# Altium integrated library Avago LED Display 7-Segment, 1-Digit.IntLib: 223 symbols (part 1 of 5)
Pins are listed as number, name and electrical type; pins without a type are passive.

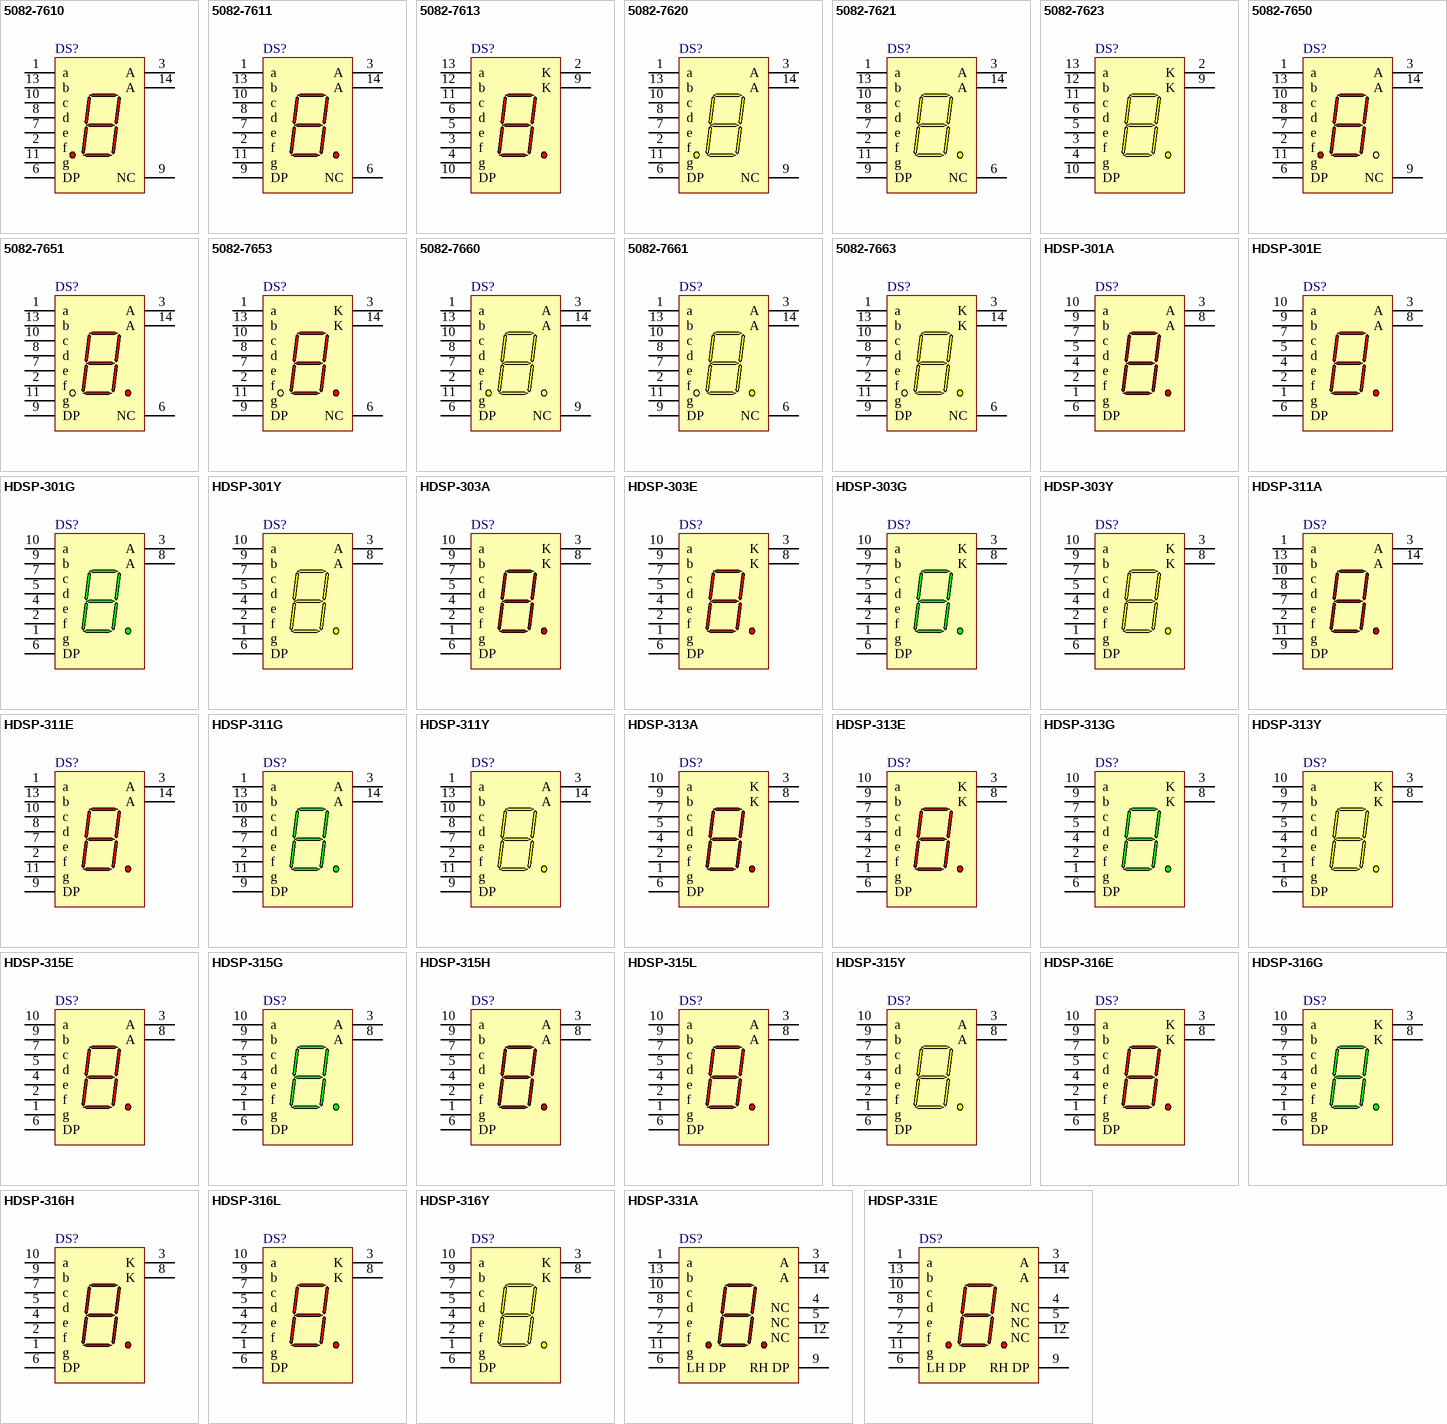
[diagram p0: symbols 5082-7610 to HDSP-331E]

## 5082-7610
designator DS?
7.62 mm HER 7-Segment Display: CA, LH DP; Note: Pins 3 and 14 are redundant Anodes.; Note: No pins are present in positions 4, 5 and 12.; Published: 26-May-2004; LatestRevisionDate: 11-Oct-2004; LatestRevisionNote: Display outline superimposed on PCB Footprint.; DatasheetVersion: 27-Aug-2001; PackageVersion: 10-Mar-2001; PackageReference: A-11(L); Publisher: Altium Limited; PackageDescription: LED, 7-Segment Display, 7.62 mm, LHD; 14 Leads (3 Absent); Row Space 7.62 mm; Pitch 2.54 mm; ComponentLink1Description: Manufacturer Link; ComponentLink1URL: http://www.avagotech.com/; ComponentLink2Description: Datasheet; ComponentLink2URL: http://cp.literature.agilent.com/litweb/pdf/5988-3325EN.pdf
footprint A-11(L) (LED, 7-Segment Display, 7.62 mm, LHD; 14 Leads (3 Absent); Row Space 7.62 mm; Pitch 2.54 mm)
simulation model 5082_7610 (SUBCKT)
pins: 1 a "Cathode", 2 f "Cathode", 3 A "Anode", 6 DP "Cathode", 7 e "Cathode", 8 d "Cathode", 9 NC "No Connect", 10 c "Cathode", 11 g "Cathode", 13 b "Cathode", 14 A "Anode"

## 5082-7611
designator DS?
7.62 mm HER 7-Segment Display: CA, RH DP; Note: Pins 3 and 14 are redundant Anodes.; Note: No pins are present in positions 4, 5 and 12.; Published: 26-May-2004; LatestRevisionDate: 11-Oct-2004; LatestRevisionNote: Display outline superimposed on PCB Footprint.; DatasheetVersion: 27-Aug-2001; PackageVersion: 10-Mar-2001; PackageReference: A-11(R); Publisher: Altium Limited; PackageDescription: LED, 7-Segment Display, 7.62 mm, RHD; 14 Leads (3 Absent); Row Space 7.62 mm; Pitch 2.54 mm; ComponentLink1Description: Manufacturer Link; ComponentLink1URL: http://www.avagotech.com/; ComponentLink2Description: Datasheet; ComponentLink2URL: http://cp.literature.agilent.com/litweb/pdf/5988-3325EN.pdf
footprint A-11(R) (LED, 7-Segment Display, 7.62 mm, RHD; 14 Leads (3 Absent); Row Space 7.62 mm; Pitch 2.54 mm)
simulation model 5082_7611 (SUBCKT)
pins: 1 a "Cathode", 2 f "Cathode", 3 A "Anode", 6 NC "No Connect", 7 e "Cathode", 8 d "Cathode", 9 DP "Cathode", 10 c "Cathode", 11 g "Cathode", 13 b "Cathode", 14 A "Anode"

## 5082-7613
designator DS?
7.62 mm HER 7-Segment Display: CC, RH DP; Note: Pins 2 and 9 are redundant Cathodes.; Note: No pins are present in positions 1, 7, 8 and 14.; Published: 26-May-2004; LatestRevisionDate: 11-Oct-2004; LatestRevisionNote: Display outline superimposed on PCB Footprint.; DatasheetVersion: 27-Aug-2001; PackageVersion: 27-Aug-2001; PackageReference: A-10(14); Publisher: Altium Limited; PackageDescription: LED, 7-Segment Display, 7.62 mm, RHD; 14 Leads (4 Absent); Row Space 7.62 mm; Pitch 2.54 mm; ComponentLink1Description: Manufacturer Link; ComponentLink1URL: http://www.avagotech.com/; ComponentLink2Description: Datasheet; ComponentLink2URL: http://cp.literature.agilent.com/litweb/pdf/5988-3325EN.pdf
footprint A-10(14) (LED, 7-Segment Display, 7.62 mm, RHD; 14 Leads (4 Absent); Row Space 7.62 mm; Pitch 2.54 mm)
simulation model 5082_7613 (SUBCKT)
pins: 2 K "Cathode", 3 f "Anode", 4 g "Anode", 5 e "Anode", 6 d "Anode", 9 K "Cathode", 10 DP "Anode", 11 c "Anode", 12 b "Anode", 13 a "Anode"

## 5082-7620
designator DS?
7.62 mm Yellow 7-Segment Display: CA, LH DP; Note: Pins 3 and 14 are redundant Anodes.; Note: No pins are present in positions 4, 5 and 12.; Published: 26-May-2004; LatestRevisionDate: 11-Oct-2004; LatestRevisionNote: Display outline superimposed on PCB Footprint.; DatasheetVersion: 27-Aug-2001; PackageVersion: 10-Mar-2001; PackageReference: A-11(L); Publisher: Altium Limited; PackageDescription: LED, 7-Segment Display, 7.62 mm, LHD; 14 Leads (3 Absent); Row Space 7.62 mm; Pitch 2.54 mm; ComponentLink1Description: Manufacturer Link; ComponentLink1URL: http://www.avagotech.com/; ComponentLink2Description: Datasheet; ComponentLink2URL: http://cp.literature.agilent.com/litweb/pdf/5988-3325EN.pdf
footprint A-11(L) (LED, 7-Segment Display, 7.62 mm, LHD; 14 Leads (3 Absent); Row Space 7.62 mm; Pitch 2.54 mm)
simulation model 5082_7620 (SUBCKT)
pins: 1 a "Cathode", 2 f "Cathode", 3 A "Anode", 6 DP "Cathode", 7 e "Cathode", 8 d "Cathode", 9 NC "No Connect", 10 c "Cathode", 11 g "Cathode", 13 b "Cathode", 14 A "Anode"

## 5082-7621
designator DS?
7.62 mm Yellow 7-Segment Display: CA, RH DP; Note: Pins 3 and 14 are redundant Anodes.; Note: No pins are present in positions 4, 5 and 12.; Published: 26-May-2004; LatestRevisionDate: 11-Oct-2004; LatestRevisionNote: Display outline superimposed on PCB Footprint.; DatasheetVersion: 27-Aug-2001; PackageVersion: 10-Mar-2001; PackageReference: A-11(R); Publisher: Altium Limited; PackageDescription: LED, 7-Segment Display, 7.62 mm, RHD; 14 Leads (3 Absent); Row Space 7.62 mm; Pitch 2.54 mm; ComponentLink1Description: Manufacturer Link; ComponentLink1URL: http://www.avagotech.com/; ComponentLink2Description: Datasheet; ComponentLink2URL: http://cp.literature.agilent.com/litweb/pdf/5988-3325EN.pdf
footprint A-11(R) (LED, 7-Segment Display, 7.62 mm, RHD; 14 Leads (3 Absent); Row Space 7.62 mm; Pitch 2.54 mm)
simulation model 5082_7621 (SUBCKT)
pins: 1 a "Cathode", 2 f "Cathode", 3 A "Anode", 6 NC "No Connect", 7 e "Cathode", 8 d "Cathode", 9 DP "Cathode", 10 c "Cathode", 11 g "Cathode", 13 b "Cathode", 14 A "Anode"

## 5082-7623
designator DS?
7.62 mm Yellow 7-Segment Display: CC, RH DP; Note: Pins 2 and 9 are redundant Cathodes.; Note: No pins are present in positions 1, 7, 8 and 14.; Published: 26-May-2004; LatestRevisionDate: 11-Oct-2004; LatestRevisionNote: Display outline superimposed on PCB Footprint.; DatasheetVersion: 27-Aug-2001; PackageVersion: 27-Aug-2001; PackageReference: A-10(14); Publisher: Altium Limited; PackageDescription: LED, 7-Segment Display, 7.62 mm, RHD; 14 Leads (4 Absent); Row Space 7.62 mm; Pitch 2.54 mm; ComponentLink1Description: Manufacturer Link; ComponentLink1URL: http://www.avagotech.com/; ComponentLink2Description: Datasheet; ComponentLink2URL: http://cp.literature.agilent.com/litweb/pdf/5988-3325EN.pdf
footprint A-10(14) (LED, 7-Segment Display, 7.62 mm, RHD; 14 Leads (4 Absent); Row Space 7.62 mm; Pitch 2.54 mm)
simulation model 5082_7623 (SUBCKT)
pins: 2 K "Cathode", 3 f "Anode", 4 g "Anode", 5 e "Anode", 6 d "Anode", 9 K "Cathode", 10 DP "Anode", 11 c "Anode", 12 b "Anode", 13 a "Anode"

## 5082-7650
designator DS?
10.92 mm HER 7-Segment Display: CA, LH DP; Note: Pins 3 and 14 are redundant Anodes.; Note: No pins are present in positions 4, 5 and 12.; Published: 26-May-2004; LatestRevisionDate: 11-Oct-2004; LatestRevisionNote: Display outline superimposed on PCB Footprint.; DatasheetVersion: 27-Aug-2001; PackageVersion: 11-Mar-2003; PackageReference: E-11(L); Publisher: Altium Limited; PackageDescription: LED, 7-Segment Display, 10.92 mm, LHD; 14 Leads (3 Absent); Row Space 7.62 mm; Pitch 2.54 mm; ComponentLink1Description: Manufacturer Link; ComponentLink1URL: http://www.avagotech.com/; ComponentLink2Description: Datasheet; ComponentLink2URL: http://cp.literature.agilent.com/litweb/pdf/5988-3325EN.pdf
footprint E-11(L) (LED, 7-Segment Display, 10.92 mm, LHD; 14 Leads (3 Absent); Row Space 7.62 mm; Pitch 2.54 mm)
simulation model 5082_7610 (SUBCKT)
pins: 1 a "Cathode", 2 f "Cathode", 3 A "Anode", 6 DP "Cathode", 7 e "Cathode", 8 d "Cathode", 9 NC "No Connect", 10 c "Cathode", 11 g "Cathode", 13 b "Cathode", 14 A "Anode"

## 5082-7651
designator DS?
10.92 mm HER 7-Segment Display: CA, RH DP; Note: Pins 3 and 14 are redundant Anodes.; Note: No pins are present in positions 4, 5 and 12.; Published: 26-May-2004; LatestRevisionDate: 11-Oct-2004; LatestRevisionNote: Display outline superimposed on PCB Footprint.; DatasheetVersion: 27-Aug-2001; PackageVersion: 11-Mar-2003; PackageReference: E-11(R); Publisher: Altium Limited; PackageDescription: LED, 7-Segment Display, 10.92 mm, RHD; 14 Leads (3 Absent); Row Space 7.62 mm; Pitch 2.54 mm; ComponentLink1Description: Manufacturer Link; ComponentLink1URL: http://www.avagotech.com/; ComponentLink2Description: Datasheet; ComponentLink2URL: http://cp.literature.agilent.com/litweb/pdf/5988-3325EN.pdf
footprint E-11(R) (LED, 7-Segment Display, 10.92 mm, RHD; 14 Leads (3 Absent); Row Space 7.62 mm; Pitch 2.54 mm)
simulation model 5082_7611 (SUBCKT)
pins: 1 a "Cathode", 2 f "Cathode", 3 A "Anode", 6 NC "No Connect", 7 e "Cathode", 8 d "Cathode", 9 DP "Cathode", 10 c "Cathode", 11 g "Cathode", 13 b "Cathode", 14 A "Anode"

## 5082-7653
designator DS?
10.92 mm HER 7-Segment Display: CC, RH DP; Note: Pins 3 and 14 are redundant Cathodes.; Note: No pins are present in positions 4, 5 and 12.; Published: 26-May-2004; LatestRevisionDate: 11-Oct-2004; LatestRevisionNote: Display outline superimposed on PCB Footprint.; DatasheetVersion: 27-Aug-2001; PackageVersion: 11-Mar-2003; PackageReference: E-11(R); Publisher: Altium Limited; PackageDescription: LED, 7-Segment Display, 10.92 mm, RHD; 14 Leads (3 Absent); Row Space 7.62 mm; Pitch 2.54 mm; ComponentLink1Description: Manufacturer Link; ComponentLink1URL: http://www.avagotech.com/; ComponentLink2Description: Datasheet; ComponentLink2URL: http://cp.literature.agilent.com/litweb/pdf/5988-3325EN.pdf
footprint E-11(R) (LED, 7-Segment Display, 10.92 mm, RHD; 14 Leads (3 Absent); Row Space 7.62 mm; Pitch 2.54 mm)
simulation model 5082_7653 (SUBCKT)
pins: 1 a "Anode", 2 f "Anode", 3 K "Cathode", 6 NC "No Connect", 7 e "Anode", 8 d "Anode", 9 DP "Anode", 10 c "Anode", 11 g "Anode", 13 b "Anode", 14 K "Cathode"

## 5082-7660
designator DS?
10.92 mm Yellow 7-Segment Display: CA, LH DP; Note: Pins 3 and 14 are redundant Anodes.; Note: No pins are present in positions 4, 5 and 12.; Published: 26-May-2004; LatestRevisionDate: 11-Oct-2004; LatestRevisionNote: Display outline superimposed on PCB Footprint.; DatasheetVersion: 27-Aug-2001; PackageVersion: 11-Mar-2003; PackageReference: E-11(L); Publisher: Altium Limited; PackageDescription: LED, 7-Segment Display, 10.92 mm, LHD; 14 Leads (3 Absent); Row Space 7.62 mm; Pitch 2.54 mm; ComponentLink1Description: Manufacturer Link; ComponentLink1URL: http://www.avagotech.com/; ComponentLink2Description: Datasheet; ComponentLink2URL: http://cp.literature.agilent.com/litweb/pdf/5988-3325EN.pdf
footprint E-11(L) (LED, 7-Segment Display, 10.92 mm, LHD; 14 Leads (3 Absent); Row Space 7.62 mm; Pitch 2.54 mm)
simulation model 5082_7620 (SUBCKT)
pins: 1 a "Cathode", 2 f "Cathode", 3 A "Anode", 6 DP "Cathode", 7 e "Cathode", 8 d "Cathode", 9 NC "No Connect", 10 c "Cathode", 11 g "Cathode", 13 b "Cathode", 14 A "Anode"

## 5082-7661
designator DS?
10.92 mm Yellow 7-Segment Display: CA, RH DP; Note: Pins 3 and 14 are redundant Anodes.; Note: No pins are present in positions 4, 5 and 12.; Published: 26-May-2004; LatestRevisionDate: 11-Oct-2004; LatestRevisionNote: Display outline superimposed on PCB Footprint.; DatasheetVersion: 27-Aug-2001; PackageVersion: 11-Mar-2003; PackageReference: E-11(R); Publisher: Altium Limited; PackageDescription: LED, 7-Segment Display, 10.92 mm, RHD; 14 Leads (3 Absent); Row Space 7.62 mm; Pitch 2.54 mm; ComponentLink1Description: Manufacturer Link; ComponentLink1URL: http://www.avagotech.com/; ComponentLink2Description: Datasheet; ComponentLink2URL: http://cp.literature.agilent.com/litweb/pdf/5988-3325EN.pdf
footprint E-11(R) (LED, 7-Segment Display, 10.92 mm, RHD; 14 Leads (3 Absent); Row Space 7.62 mm; Pitch 2.54 mm)
simulation model 5082_7621 (SUBCKT)
pins: 1 a "Cathode", 2 f "Cathode", 3 A "Anode", 6 NC "No Connect", 7 e "Cathode", 8 d "Cathode", 9 DP "Cathode", 10 c "Cathode", 11 g "Cathode", 13 b "Cathode", 14 A "Anode"

## 5082-7663
designator DS?
10.92 mm Yellow 7-Segment Display: CC, RH DP; Note: Pins 3 and 14 are redundant Cathodes.; Note: No pins are present in positions 4, 5 and 12.; Published: 26-May-2004; LatestRevisionDate: 11-Oct-2004; LatestRevisionNote: Display outline superimposed on PCB Footprint.; DatasheetVersion: 27-Aug-2001; PackageVersion: 11-Mar-2003; PackageReference: E-11(R); Publisher: Altium Limited; PackageDescription: LED, 7-Segment Display, 10.92 mm, RHD; 14 Leads (3 Absent); Row Space 7.62 mm; Pitch 2.54 mm; ComponentLink1Description: Manufacturer Link; ComponentLink1URL: http://www.avagotech.com/; ComponentLink2Description: Datasheet; ComponentLink2URL: http://cp.literature.agilent.com/litweb/pdf/5988-3325EN.pdf
footprint E-11(R) (LED, 7-Segment Display, 10.92 mm, RHD; 14 Leads (3 Absent); Row Space 7.62 mm; Pitch 2.54 mm)
simulation model 5082_7663 (SUBCKT)
pins: 1 a "Anode", 2 f "Anode", 3 K "Cathode", 6 NC "No Connect", 7 e "Anode", 8 d "Anode", 9 DP "Anode", 10 c "Anode", 11 g "Anode", 13 b "Anode", 14 K "Cathode"

## HDSP-301A
designator DS?
10 mm Slim Font, AlGaAs 7-Segment Display: CA, RH DP; Published: 26-May-2004; LatestRevisionDate: 11-Oct-2004; LatestRevisionNote: Display outline superimposed on PCB Footprint.; DatasheetVersion: 1-Oct-2001; PackageVersion: 17-Jan-2002; PackageReference: F-10; Publisher: Altium Limited; PackageDescription: LED, 7-Segment Display, 10 mm, RHD; 10 Leads; Row Space 7.62 mm; Pitch 2.54 mm; ComponentLink1Description: Manufacturer Link; ComponentLink1URL: http://www.avagotech.com/; ComponentLink2Description: Datasheet; ComponentLink2URL: http://cp.literature.agilent.com/litweb/pdf/5988-4352EN.pdf
footprint F-10 (LED, 7-Segment Display, 10 mm, RHD; 10 Leads; Row Space 7.62 mm; Pitch 2.54 mm)
simulation model HDSP_301A (SUBCKT)
pins: 1 g "Cathode", 2 f "Cathode", 3 A "Common Anode", 4 e "Cathode", 5 d "Cathode", 6 DP "Cathode", 7 c "Cathode", 8 A "Common Anode", 9 b "Cathode", 10 a "Cathode"

## HDSP-301E
designator DS?
10 mm Slim Font, HER 7-Segment Display: CA, RH DP; Published: 26-May-2004; LatestRevisionDate: 11-Oct-2004; LatestRevisionNote: Display outline superimposed on PCB Footprint.; DatasheetVersion: 1-Oct-2001; PackageVersion: 17-Jan-2002; PackageReference: F-10; Publisher: Altium Limited; PackageDescription: LED, 7-Segment Display, 10 mm, RHD; 10 Leads; Row Space 7.62 mm; Pitch 2.54 mm; ComponentLink1Description: Manufacturer Link; ComponentLink1URL: http://www.avagotech.com/; ComponentLink2Description: Datasheet; ComponentLink2URL: http://cp.literature.agilent.com/litweb/pdf/5988-4352EN.pdf
footprint F-10 (LED, 7-Segment Display, 10 mm, RHD; 10 Leads; Row Space 7.62 mm; Pitch 2.54 mm)
simulation model HDSP_301E (SUBCKT)
pins: 1 g "Cathode", 2 f "Cathode", 3 A "Common Anode", 4 e "Cathode", 5 d "Cathode", 6 DP "Cathode", 7 c "Cathode", 8 A "Common Anode", 9 b "Cathode", 10 a "Cathode"

## HDSP-301G
designator DS?
10 mm Slim Font, Green 7-Segment Display: CA, RH DP; Published: 26-May-2004; LatestRevisionDate: 11-Oct-2004; LatestRevisionNote: Display outline superimposed on PCB Footprint.; DatasheetVersion: 1-Oct-2001; PackageVersion: 17-Jan-2002; PackageReference: F-10; Publisher: Altium Limited; PackageDescription: LED, 7-Segment Display, 10 mm, RHD; 10 Leads; Row Space 7.62 mm; Pitch 2.54 mm; ComponentLink1Description: Manufacturer Link; ComponentLink1URL: http://www.avagotech.com/; ComponentLink2Description: Datasheet; ComponentLink2URL: http://cp.literature.agilent.com/litweb/pdf/5988-4352EN.pdf
footprint F-10 (LED, 7-Segment Display, 10 mm, RHD; 10 Leads; Row Space 7.62 mm; Pitch 2.54 mm)
simulation model HDSP_301G (SUBCKT)
pins: 1 g "Cathode", 2 f "Cathode", 3 A "Common Anode", 4 e "Cathode", 5 d "Cathode", 6 DP "Cathode", 7 c "Cathode", 8 A "Common Anode", 9 b "Cathode", 10 a "Cathode"

## HDSP-301Y
designator DS?
10 mm Slim Font, Yellow 7-Segment Display: CA, RH DP; Published: 26-May-2004; LatestRevisionDate: 11-Oct-2004; LatestRevisionNote: Display outline superimposed on PCB Footprint.; DatasheetVersion: 1-Oct-2001; PackageVersion: 17-Jan-2002; PackageReference: F-10; Publisher: Altium Limited; PackageDescription: LED, 7-Segment Display, 10 mm, RHD; 10 Leads; Row Space 7.62 mm; Pitch 2.54 mm; ComponentLink1Description: Manufacturer Link; ComponentLink1URL: http://www.avagotech.com/; ComponentLink2Description: Datasheet; ComponentLink2URL: http://cp.literature.agilent.com/litweb/pdf/5988-4352EN.pdf
footprint F-10 (LED, 7-Segment Display, 10 mm, RHD; 10 Leads; Row Space 7.62 mm; Pitch 2.54 mm)
simulation model HDSP_301Y (SUBCKT)
pins: 1 g "Cathode", 2 f "Cathode", 3 A "Common Anode", 4 e "Cathode", 5 d "Cathode", 6 DP "Cathode", 7 c "Cathode", 8 A "Common Anode", 9 b "Cathode", 10 a "Cathode"

## HDSP-303A
designator DS?
10 mm Slim Font, AlGaAs 7-Segment Display: CC, RH DP; Published: 26-May-2004; LatestRevisionDate: 11-Oct-2004; LatestRevisionNote: Display outline superimposed on PCB Footprint.; DatasheetVersion: 1-Oct-2001; PackageVersion: 17-Jan-2002; PackageReference: F-10; Publisher: Altium Limited; PackageDescription: LED, 7-Segment Display, 10 mm, RHD; 10 Leads; Row Space 7.62 mm; Pitch 2.54 mm; ComponentLink1Description: Manufacturer Link; ComponentLink1URL: http://www.avagotech.com/; ComponentLink2Description: Datasheet; ComponentLink2URL: http://cp.literature.agilent.com/litweb/pdf/5988-4352EN.pdf
footprint F-10 (LED, 7-Segment Display, 10 mm, RHD; 10 Leads; Row Space 7.62 mm; Pitch 2.54 mm)
simulation model HDSP_303A (SUBCKT)
pins: 1 g "Anode", 2 f "Anode", 3 K "Common Cathode", 4 e "Anode", 5 d "Anode", 6 DP "Anode", 7 c "Anode", 8 K "Common Cathode", 9 b "Anode", 10 a "Anode"

## HDSP-303E
designator DS?
10 mm Slim Font, HER 7-Segment Display: CC, RH DP; Published: 26-May-2004; LatestRevisionDate: 11-Oct-2004; LatestRevisionNote: Display outline superimposed on PCB Footprint.; DatasheetVersion: 1-Oct-2001; PackageVersion: 17-Jan-2002; PackageReference: F-10; Publisher: Altium Limited; PackageDescription: LED, 7-Segment Display, 10 mm, RHD; 10 Leads; Row Space 7.62 mm; Pitch 2.54 mm; ComponentLink1Description: Manufacturer Link; ComponentLink1URL: http://www.avagotech.com/; ComponentLink2Description: Datasheet; ComponentLink2URL: http://cp.literature.agilent.com/litweb/pdf/5988-4352EN.pdf
footprint F-10 (LED, 7-Segment Display, 10 mm, RHD; 10 Leads; Row Space 7.62 mm; Pitch 2.54 mm)
simulation model HDSP_303E (SUBCKT)
pins: 1 g "Anode", 2 f "Anode", 3 K "Common Cathode", 4 e "Anode", 5 d "Anode", 6 DP "Anode", 7 c "Anode", 8 K "Common Cathode", 9 b "Anode", 10 a "Anode"

## HDSP-303G
designator DS?
10 mm Slim Font, Green 7-Segment Display: CC, RH DP; Published: 26-May-2004; LatestRevisionDate: 11-Oct-2004; LatestRevisionNote: Display outline superimposed on PCB Footprint.; DatasheetVersion: 1-Oct-2001; PackageVersion: 17-Jan-2002; PackageReference: F-10; Publisher: Altium Limited; PackageDescription: LED, 7-Segment Display, 10 mm, RHD; 10 Leads; Row Space 7.62 mm; Pitch 2.54 mm; ComponentLink1Description: Manufacturer Link; ComponentLink1URL: http://www.avagotech.com/; ComponentLink2Description: Datasheet; ComponentLink2URL: http://cp.literature.agilent.com/litweb/pdf/5988-4352EN.pdf
footprint F-10 (LED, 7-Segment Display, 10 mm, RHD; 10 Leads; Row Space 7.62 mm; Pitch 2.54 mm)
simulation model HDSP_303G (SUBCKT)
pins: 1 g "Anode", 2 f "Anode", 3 K "Common Cathode", 4 e "Anode", 5 d "Anode", 6 DP "Anode", 7 c "Anode", 8 K "Common Cathode", 9 b "Anode", 10 a "Anode"

## HDSP-303Y
designator DS?
10 mm Slim Font, Yellow 7-Segment Display: CC, RH DP; Published: 26-May-2004; LatestRevisionDate: 11-Oct-2004; LatestRevisionNote: Display outline superimposed on PCB Footprint.; DatasheetVersion: 1-Oct-2001; PackageVersion: 17-Jan-2002; PackageReference: F-10; Publisher: Altium Limited; PackageDescription: LED, 7-Segment Display, 10 mm, RHD; 10 Leads; Row Space 7.62 mm; Pitch 2.54 mm; ComponentLink1Description: Manufacturer Link; ComponentLink1URL: http://www.avagotech.com/; ComponentLink2Description: Datasheet; ComponentLink2URL: http://cp.literature.agilent.com/litweb/pdf/5988-4352EN.pdf
footprint F-10 (LED, 7-Segment Display, 10 mm, RHD; 10 Leads; Row Space 7.62 mm; Pitch 2.54 mm)
simulation model HDSP_303Y (SUBCKT)
pins: 1 g "Anode", 2 f "Anode", 3 K "Common Cathode", 4 e "Anode", 5 d "Anode", 6 DP "Anode", 7 c "Anode", 8 K "Common Cathode", 9 b "Anode", 10 a "Anode"

## HDSP-311A
designator DS?
10.16 mm Single Digit General Purpose AlGaAs Red 7-Segment Display: CA, RH DP; Note: No pins are present in positions 4, 5, 6 and 12.; Published: 26-May-2004; LatestRevisionDate: 11-Oct-2004; LatestRevisionNote: Display outline superimposed on PCB Footprint.; DatasheetVersion: 20-Aug-2001; PackageVersion: 20-Aug-2001; PackageReference: F-10(14); Publisher: Altium Limited; PackageDescription: LED, 7-Segment Display, 10.16 mm, RHD; 14 Leads (4 Absent); Row Space 7.62 mm; Pitch 2.54 mm; ComponentLink1Description: Manufacturer Link; ComponentLink1URL: http://www.avagotech.com/; ComponentLink2Description: Datasheet; ComponentLink2URL: http://cp.literature.agilent.com/litweb/pdf/5988-2969EN.pdf
footprint F-10(14) (LED, 7-Segment Display, 10.16 mm, RHD; 14 Leads (4 Absent); Row Space 7.62 mm; Pitch 2.54 mm)
simulation model HDSP_311A (SUBCKT)
pins: 1 a "Cathode", 2 f "Cathode", 3 A "Common Anode", 7 e "Cathode", 8 d "Cathode", 9 DP "Cathode", 10 c "Cathode", 11 g "Cathode", 13 b "Cathode", 14 A "Common Anode"

## HDSP-311E
designator DS?
10.16 mm Single Digit General Purpose HER 7-Segment Display: CA, RH DP; Note: No pins are present in positions 4, 5, 6 and 12.; Published: 26-May-2004; LatestRevisionDate: 11-Oct-2004; LatestRevisionNote: Display outline superimposed on PCB Footprint.; DatasheetVersion: 20-Aug-2001; PackageVersion: 20-Aug-2001; PackageReference: F-10(14); Publisher: Altium Limited; PackageDescription: LED, 7-Segment Display, 10.16 mm, RHD; 14 Leads (4 Absent); Row Space 7.62 mm; Pitch 2.54 mm; ComponentLink1Description: Manufacturer Link; ComponentLink1URL: http://www.avagotech.com/; ComponentLink2Description: Datasheet; ComponentLink2URL: http://cp.literature.agilent.com/litweb/pdf/5988-2969EN.pdf
footprint F-10(14) (LED, 7-Segment Display, 10.16 mm, RHD; 14 Leads (4 Absent); Row Space 7.62 mm; Pitch 2.54 mm)
simulation model HDSP_311E (SUBCKT)
pins: 1 a "Cathode", 2 f "Cathode", 3 A "Common Anode", 7 e "Cathode", 8 d "Cathode", 9 DP "Cathode", 10 c "Cathode", 11 g "Cathode", 13 b "Cathode", 14 A "Common Anode"

## HDSP-311G
designator DS?
10.16 mm Single Digit General Purpose Green 7-Segment Display: CA, RH DP; Note: No pins are present in positions 4, 5, 6 and 12.; Published: 26-May-2004; LatestRevisionDate: 11-Oct-2004; LatestRevisionNote: Display outline superimposed on PCB Footprint.; DatasheetVersion: 20-Aug-2001; PackageVersion: 20-Aug-2001; PackageReference: F-10(14); Publisher: Altium Limited; PackageDescription: LED, 7-Segment Display, 10.16 mm, RHD; 14 Leads (4 Absent); Row Space 7.62 mm; Pitch 2.54 mm; ComponentLink1Description: Manufacturer Link; ComponentLink1URL: http://www.avagotech.com/; ComponentLink2Description: Datasheet; ComponentLink2URL: http://cp.literature.agilent.com/litweb/pdf/5988-2969EN.pdf
footprint F-10(14) (LED, 7-Segment Display, 10.16 mm, RHD; 14 Leads (4 Absent); Row Space 7.62 mm; Pitch 2.54 mm)
simulation model HDSP_311G (SUBCKT)
pins: 1 a "Cathode", 2 f "Cathode", 3 A "Common Anode", 7 e "Cathode", 8 d "Cathode", 9 DP "Cathode", 10 c "Cathode", 11 g "Cathode", 13 b "Cathode", 14 A "Common Anode"

## HDSP-311Y
designator DS?
10.16 mm Single Digit General Purpose Yellow 7-Segment Display: CA, RH DP; Note: No pins are present in positions 4, 5, 6 and 12.; Published: 26-May-2004; LatestRevisionDate: 11-Oct-2004; LatestRevisionNote: Display outline superimposed on PCB Footprint.; DatasheetVersion: 20-Aug-2001; PackageVersion: 20-Aug-2001; PackageReference: F-10(14); Publisher: Altium Limited; PackageDescription: LED, 7-Segment Display, 10.16 mm, RHD; 14 Leads (4 Absent); Row Space 7.62 mm; Pitch 2.54 mm; ComponentLink1Description: Manufacturer Link; ComponentLink1URL: http://www.avagotech.com/; ComponentLink2Description: Datasheet; ComponentLink2URL: http://cp.literature.agilent.com/litweb/pdf/5988-2969EN.pdf
footprint F-10(14) (LED, 7-Segment Display, 10.16 mm, RHD; 14 Leads (4 Absent); Row Space 7.62 mm; Pitch 2.54 mm)
simulation model HDSP_311Y (SUBCKT)
pins: 1 a "Cathode", 2 f "Cathode", 3 A "Common Anode", 7 e "Cathode", 8 d "Cathode", 9 DP "Cathode", 10 c "Cathode", 11 g "Cathode", 13 b "Cathode", 14 A "Common Anode"

## HDSP-313A
designator DS?
10 mm Single Digit General Purpose AlGaAs Red 7-Segment Display: CC, RH DP; Published: 26-May-2004; LatestRevisionDate: 11-Oct-2004; LatestRevisionNote: Display outline superimposed on PCB Footprint.; DatasheetVersion: 20-Aug-2001; PackageVersion: 17-Jan-2002; PackageReference: F-10; Publisher: Altium Limited; PackageDescription: LED, 7-Segment Display, 10 mm, RHD; 10 Leads; Row Space 7.62 mm; Pitch 2.54 mm; ComponentLink1Description: Manufacturer Link; ComponentLink1URL: http://www.avagotech.com/; ComponentLink2Description: Datasheet; ComponentLink2URL: http://cp.literature.agilent.com/litweb/pdf/5988-2969EN.pdf
footprint F-10 (LED, 7-Segment Display, 10 mm, RHD; 10 Leads; Row Space 7.62 mm; Pitch 2.54 mm)
simulation model HDSP_313A (SUBCKT)
pins: 1 g "Anode", 2 f "Anode", 3 K "Common Cathode", 4 e "Anode", 5 d "Anode", 6 DP "Anode", 7 c "Anode", 8 K "Common Cathode", 9 b "Anode", 10 a "Anode"

## HDSP-313E
designator DS?
10 mm Single Digit General Purpose HER 7-Segment Display: CC, RH DP; Published: 26-May-2004; LatestRevisionDate: 11-Oct-2004; LatestRevisionNote: Display outline superimposed on PCB Footprint.; DatasheetVersion: 20-Aug-2001; PackageVersion: 17-Jan-2002; PackageReference: F-10; Publisher: Altium Limited; PackageDescription: LED, 7-Segment Display, 10 mm, RHD; 10 Leads; Row Space 7.62 mm; Pitch 2.54 mm; ComponentLink1Description: Manufacturer Link; ComponentLink1URL: http://www.avagotech.com/; ComponentLink2Description: Datasheet; ComponentLink2URL: http://cp.literature.agilent.com/litweb/pdf/5988-2969EN.pdf
footprint F-10 (LED, 7-Segment Display, 10 mm, RHD; 10 Leads; Row Space 7.62 mm; Pitch 2.54 mm)
simulation model HDSP_313E (SUBCKT)
pins: 1 g "Anode", 2 f "Anode", 3 K "Common Cathode", 4 e "Anode", 5 d "Anode", 6 DP "Anode", 7 c "Anode", 8 K "Common Cathode", 9 b "Anode", 10 a "Anode"

## HDSP-313G
designator DS?
10 mm Single Digit General Purpose Green 7-Segment Display: CC, RH DP; Published: 26-May-2004; LatestRevisionDate: 11-Oct-2004; LatestRevisionNote: Display outline superimposed on PCB Footprint.; DatasheetVersion: 20-Aug-2001; PackageVersion: 17-Jan-2002; PackageReference: F-10; Publisher: Altium Limited; PackageDescription: LED, 7-Segment Display, 10 mm, RHD; 10 Leads; Row Space 7.62 mm; Pitch 2.54 mm; ComponentLink1Description: Manufacturer Link; ComponentLink1URL: http://www.avagotech.com/; ComponentLink2Description: Datasheet; ComponentLink2URL: http://cp.literature.agilent.com/litweb/pdf/5988-2969EN.pdf
footprint F-10 (LED, 7-Segment Display, 10 mm, RHD; 10 Leads; Row Space 7.62 mm; Pitch 2.54 mm)
simulation model HDSP_313G (SUBCKT)
pins: 1 g "Anode", 2 f "Anode", 3 K "Common Cathode", 4 e "Anode", 5 d "Anode", 6 DP "Anode", 7 c "Anode", 8 K "Common Cathode", 9 b "Anode", 10 a "Anode"

## HDSP-313Y
designator DS?
10 mm Single Digit General Purpose Yellow 7-Segment Display: CC, RH DP; Published: 26-May-2004; LatestRevisionDate: 11-Oct-2004; LatestRevisionNote: Display outline superimposed on PCB Footprint.; DatasheetVersion: 20-Aug-2001; PackageVersion: 17-Jan-2002; PackageReference: F-10; Publisher: Altium Limited; PackageDescription: LED, 7-Segment Display, 10 mm, RHD; 10 Leads; Row Space 7.62 mm; Pitch 2.54 mm; ComponentLink1Description: Manufacturer Link; ComponentLink1URL: http://www.avagotech.com/; ComponentLink2Description: Datasheet; ComponentLink2URL: http://cp.literature.agilent.com/litweb/pdf/5988-2969EN.pdf
footprint F-10 (LED, 7-Segment Display, 10 mm, RHD; 10 Leads; Row Space 7.62 mm; Pitch 2.54 mm)
simulation model HDSP_313Y (SUBCKT)
pins: 1 g "Anode", 2 f "Anode", 3 K "Common Cathode", 4 e "Anode", 5 d "Anode", 6 DP "Anode", 7 c "Anode", 8 K "Common Cathode", 9 b "Anode", 10 a "Anode"

## HDSP-315E
designator DS?
10 mm Slim Font, Standard Current, HER 7-Segment Display: CA, RH DP; Published: 26-May-2004; LatestRevisionDate: 11-Oct-2004; LatestRevisionNote: Display outline superimposed on PCB Footprint.; DatasheetVersion: 20-Jul-2001; PackageVersion: 17-Jan-2002; PackageReference: F-10; Publisher: Altium Limited; PackageDescription: LED, 7-Segment Display, 10 mm, RHD; 10 Leads; Row Space 7.62 mm; Pitch 2.54 mm; ComponentLink1Description: Manufacturer Link; ComponentLink1URL: http://www.avagotech.com/; ComponentLink2Description: Datasheet; ComponentLink2URL: http://cp.literature.agilent.com/litweb/pdf/5989-2640EN.pdf
footprint F-10 (LED, 7-Segment Display, 10 mm, RHD; 10 Leads; Row Space 7.62 mm; Pitch 2.54 mm)
simulation model HDSP_315E (SUBCKT)
pins: 1 g "Cathode", 2 f "Cathode", 3 A "Common Anode", 4 e "Cathode", 5 d "Cathode", 6 DP "Cathode", 7 c "Cathode", 8 A "Common Anode", 9 b "Cathode", 10 a "Cathode"

## HDSP-315G
designator DS?
10 mm Slim Font, Standard Current, Green 7-Segment Display: CA, RH DP; Published: 26-May-2004; LatestRevisionDate: 11-Oct-2004; LatestRevisionNote: Display outline superimposed on PCB Footprint.; DatasheetVersion: 20-Jul-2001; PackageVersion: 17-Jan-2002; PackageReference: F-10; Publisher: Altium Limited; PackageDescription: LED, 7-Segment Display, 10 mm, RHD; 10 Leads; Row Space 7.62 mm; Pitch 2.54 mm; ComponentLink1Description: Manufacturer Link; ComponentLink1URL: http://www.avagotech.com/; ComponentLink2Description: Datasheet; ComponentLink2URL: http://cp.literature.agilent.com/litweb/pdf/5989-2640EN.pdf
footprint F-10 (LED, 7-Segment Display, 10 mm, RHD; 10 Leads; Row Space 7.62 mm; Pitch 2.54 mm)
simulation model HDSP_315G (SUBCKT)
pins: 1 g "Cathode", 2 f "Cathode", 3 A "Common Anode", 4 e "Cathode", 5 d "Cathode", 6 DP "Cathode", 7 c "Cathode", 8 A "Common Anode", 9 b "Cathode", 10 a "Cathode"

## HDSP-315H
designator DS?
10 mm Slim Font, Low Current, AlGaAs Red 7-Segment Display: CA, RH DP; Published: 26-May-2004; LatestRevisionDate: 11-Oct-2004; LatestRevisionNote: Display outline superimposed on PCB Footprint.; DatasheetVersion: 20-Jul-2001; PackageVersion: 17-Jan-2002; PackageReference: F-10; Publisher: Altium Limited; PackageDescription: LED, 7-Segment Display, 10 mm, RHD; 10 Leads; Row Space 7.62 mm; Pitch 2.54 mm; ComponentLink1Description: Manufacturer Link; ComponentLink1URL: http://www.avagotech.com/; ComponentLink2Description: Datasheet; ComponentLink2URL: http://cp.literature.agilent.com/litweb/pdf/5989-2640EN.pdf
footprint F-10 (LED, 7-Segment Display, 10 mm, RHD; 10 Leads; Row Space 7.62 mm; Pitch 2.54 mm)
simulation model HDSP_315H (SUBCKT)
pins: 1 g "Cathode", 2 f "Cathode", 3 A "Common Anode", 4 e "Cathode", 5 d "Cathode", 6 DP "Cathode", 7 c "Cathode", 8 A "Common Anode", 9 b "Cathode", 10 a "Cathode"

## HDSP-315L
designator DS?
10 mm Slim Font, Low Current, HER 7-Segment Display: CA, RH DP; Published: 26-May-2004; LatestRevisionDate: 11-Oct-2004; LatestRevisionNote: Display outline superimposed on PCB Footprint.; DatasheetVersion: 20-Jul-2001; PackageVersion: 17-Jan-2002; PackageReference: F-10; Publisher: Altium Limited; PackageDescription: LED, 7-Segment Display, 10 mm, RHD; 10 Leads; Row Space 7.62 mm; Pitch 2.54 mm; ComponentLink1Description: Manufacturer Link; ComponentLink1URL: http://www.avagotech.com/; ComponentLink2Description: Datasheet; ComponentLink2URL: http://cp.literature.agilent.com/litweb/pdf/5989-2640EN.pdf
footprint F-10 (LED, 7-Segment Display, 10 mm, RHD; 10 Leads; Row Space 7.62 mm; Pitch 2.54 mm)
simulation model HDSP_315L (SUBCKT)
pins: 1 g "Cathode", 2 f "Cathode", 3 A "Common Anode", 4 e "Cathode", 5 d "Cathode", 6 DP "Cathode", 7 c "Cathode", 8 A "Common Anode", 9 b "Cathode", 10 a "Cathode"

## HDSP-315Y
designator DS?
10 mm Slim Font, Standard Current, Yellow 7-Segment Display: CA, RH DP; Published: 26-May-2004; LatestRevisionDate: 11-Oct-2004; LatestRevisionNote: Display outline superimposed on PCB Footprint.; DatasheetVersion: 20-Jul-2001; PackageVersion: 17-Jan-2002; PackageReference: F-10; Publisher: Altium Limited; PackageDescription: LED, 7-Segment Display, 10 mm, RHD; 10 Leads; Row Space 7.62 mm; Pitch 2.54 mm; ComponentLink1Description: Manufacturer Link; ComponentLink1URL: http://www.avagotech.com/; ComponentLink2Description: Datasheet; ComponentLink2URL: http://cp.literature.agilent.com/litweb/pdf/5989-2640EN.pdf
footprint F-10 (LED, 7-Segment Display, 10 mm, RHD; 10 Leads; Row Space 7.62 mm; Pitch 2.54 mm)
simulation model HDSP_315Y (SUBCKT)
pins: 1 g "Cathode", 2 f "Cathode", 3 A "Common Anode", 4 e "Cathode", 5 d "Cathode", 6 DP "Cathode", 7 c "Cathode", 8 A "Common Anode", 9 b "Cathode", 10 a "Cathode"

## HDSP-316E
designator DS?
10 mm Slim Font, Standard Current, HER 7-Segment Display: CC, RH DP; Published: 26-May-2004; LatestRevisionDate: 11-Oct-2004; LatestRevisionNote: Display outline superimposed on PCB Footprint.; DatasheetVersion: 20-Jul-2001; PackageVersion: 17-Jan-2002; PackageReference: F-10; Publisher: Altium Limited; PackageDescription: LED, 7-Segment Display, 10 mm, RHD; 10 Leads; Row Space 7.62 mm; Pitch 2.54 mm; ComponentLink1Description: Manufacturer Link; ComponentLink1URL: http://www.avagotech.com/; ComponentLink2Description: Datasheet; ComponentLink2URL: http://cp.literature.agilent.com/litweb/pdf/5989-2640EN.pdf
footprint F-10 (LED, 7-Segment Display, 10 mm, RHD; 10 Leads; Row Space 7.62 mm; Pitch 2.54 mm)
simulation model HDSP_316E (SUBCKT)
pins: 1 g "Anode", 2 f "Anode", 3 K "Common Cathode", 4 e "Anode", 5 d "Anode", 6 DP "Anode", 7 c "Anode", 8 K "Common Cathode", 9 b "Anode", 10 a "Anode"

## HDSP-316G
designator DS?
10 mm Slim Font, Standard Current, Green 7-Segment Display: CC, RH DP; Published: 26-May-2004; LatestRevisionDate: 11-Oct-2004; LatestRevisionNote: Display outline superimposed on PCB Footprint.; DatasheetVersion: 20-Jul-2001; PackageVersion: 17-Jan-2002; PackageReference: F-10; Publisher: Altium Limited; PackageDescription: LED, 7-Segment Display, 10 mm, RHD; 10 Leads; Row Space 7.62 mm; Pitch 2.54 mm; ComponentLink1Description: Manufacturer Link; ComponentLink1URL: http://www.avagotech.com/; ComponentLink2Description: Datasheet; ComponentLink2URL: http://cp.literature.agilent.com/litweb/pdf/5989-2640EN.pdf
footprint F-10 (LED, 7-Segment Display, 10 mm, RHD; 10 Leads; Row Space 7.62 mm; Pitch 2.54 mm)
simulation model HDSP_316G (SUBCKT)
pins: 1 g "Anode", 2 f "Anode", 3 K "Common Cathode", 4 e "Anode", 5 d "Anode", 6 DP "Anode", 7 c "Anode", 8 K "Common Cathode", 9 b "Anode", 10 a "Anode"

## HDSP-316H
designator DS?
10 mm Slim Font, Low Current, AlGaAs Red 7-Segment Display: CC, RH DP; Published: 26-May-2004; LatestRevisionDate: 11-Oct-2004; LatestRevisionNote: Display outline superimposed on PCB Footprint.; DatasheetVersion: 20-Jul-2001; PackageVersion: 17-Jan-2002; PackageReference: F-10; Publisher: Altium Limited; PackageDescription: LED, 7-Segment Display, 10 mm, RHD; 10 Leads; Row Space 7.62 mm; Pitch 2.54 mm; ComponentLink1Description: Manufacturer Link; ComponentLink1URL: http://www.avagotech.com/; ComponentLink2Description: Datasheet; ComponentLink2URL: http://cp.literature.agilent.com/litweb/pdf/5989-2640EN.pdf
footprint F-10 (LED, 7-Segment Display, 10 mm, RHD; 10 Leads; Row Space 7.62 mm; Pitch 2.54 mm)
simulation model HDSP_316H (SUBCKT)
pins: 1 g "Anode", 2 f "Anode", 3 K "Common Cathode", 4 e "Anode", 5 d "Anode", 6 DP "Anode", 7 c "Anode", 8 K "Common Cathode", 9 b "Anode", 10 a "Anode"

## HDSP-316L
designator DS?
10 mm Slim Font, Low Current, HER 7-Segment Display: CC, RH DP; Published: 26-May-2004; LatestRevisionDate: 11-Oct-2004; LatestRevisionNote: Display outline superimposed on PCB Footprint.; DatasheetVersion: 20-Jul-2001; PackageVersion: 17-Jan-2002; PackageReference: F-10; Publisher: Altium Limited; PackageDescription: LED, 7-Segment Display, 10 mm, RHD; 10 Leads; Row Space 7.62 mm; Pitch 2.54 mm; ComponentLink1Description: Manufacturer Link; ComponentLink1URL: http://www.avagotech.com/; ComponentLink2Description: Datasheet; ComponentLink2URL: http://cp.literature.agilent.com/litweb/pdf/5989-2640EN.pdf
footprint F-10 (LED, 7-Segment Display, 10 mm, RHD; 10 Leads; Row Space 7.62 mm; Pitch 2.54 mm)
simulation model HDSP_316L (SUBCKT)
pins: 1 g "Anode", 2 f "Anode", 3 K "Common Cathode", 4 e "Anode", 5 d "Anode", 6 DP "Anode", 7 c "Anode", 8 K "Common Cathode", 9 b "Anode", 10 a "Anode"

## HDSP-316Y
designator DS?
10 mm Slim Font, Standard Current, Yellow 7-Segment Display: CC, RH DP; Published: 26-May-2004; LatestRevisionDate: 11-Oct-2004; LatestRevisionNote: Display outline superimposed on PCB Footprint.; DatasheetVersion: 20-Jul-2001; PackageVersion: 17-Jan-2002; PackageReference: F-10; Publisher: Altium Limited; PackageDescription: LED, 7-Segment Display, 10 mm, RHD; 10 Leads; Row Space 7.62 mm; Pitch 2.54 mm; ComponentLink1Description: Manufacturer Link; ComponentLink1URL: http://www.avagotech.com/; ComponentLink2Description: Datasheet; ComponentLink2URL: http://cp.literature.agilent.com/litweb/pdf/5989-2640EN.pdf
footprint F-10 (LED, 7-Segment Display, 10 mm, RHD; 10 Leads; Row Space 7.62 mm; Pitch 2.54 mm)
simulation model HDSP_316Y (SUBCKT)
pins: 1 g "Anode", 2 f "Anode", 3 K "Common Cathode", 4 e "Anode", 5 d "Anode", 6 DP "Anode", 7 c "Anode", 8 K "Common Cathode", 9 b "Anode", 10 a "Anode"

## HDSP-331A
designator DS?
7.62 mm General Purpose AlGaAs Red 7-Segment Display: CA, RH and LH DP; Published: 26-May-2004; LatestRevisionDate: 11-Oct-2004; LatestRevisionNote: Display outline superimposed on PCB Footprint.; DatasheetVersion: 22-Apr-2003; PackageVersion: 22-Apr-2003; PackageReference: A-14; Publisher: Altium Limited; PackageDescription: LED, 7-Segment Display, 7.62 mm, LHD; 14 Leads; Row Space 7.62 mm; Pitch 2.54 mm; ComponentLink1Description: Manufacturer Link; ComponentLink1URL: http://www.avagotech.com/; ComponentLink2Description: Datasheet; ComponentLink2URL: http://cp.literature.agilent.com/litweb/pdf/5988-9421EN.pdf
footprint A-14 (LED, 7-Segment Display, 7.62 mm, LHD; 14 Leads; Row Space 7.62 mm; Pitch 2.54 mm)
simulation model HDSP_331A (SUBCKT)
pins: 1 a "Cathode", 2 f "Cathode", 3 A "Common Anode", 4 NC "No Connect", 5 NC "No Connect", 6 LH DP "Left Hand DP Cathode", 7 e "Cathode", 8 d "Cathode", 9 RH DP "Right Hand DP Cathode", 10 c "Cathode", 11 g "Cathode", 12 NC "No Connect", 13 b "Cathode", 14 A "Common Anode"

## HDSP-331E
designator DS?
7.62 mm General Purpose HER 7-Segment Display: CA, RH and LH DP; Published: 26-May-2004; LatestRevisionDate: 11-Oct-2004; LatestRevisionNote: Display outline superimposed on PCB Footprint.; DatasheetVersion: 22-Apr-2003; PackageVersion: 22-Apr-2003; PackageReference: A-14; Publisher: Altium Limited; PackageDescription: LED, 7-Segment Display, 7.62 mm, LHD; 14 Leads; Row Space 7.62 mm; Pitch 2.54 mm; ComponentLink1Description: Manufacturer Link; ComponentLink1URL: http://www.avagotech.com/; ComponentLink2Description: Datasheet; ComponentLink2URL: http://cp.literature.agilent.com/litweb/pdf/5988-9421EN.pdf
footprint A-14 (LED, 7-Segment Display, 7.62 mm, LHD; 14 Leads; Row Space 7.62 mm; Pitch 2.54 mm)
simulation model HDSP_331E (SUBCKT)
pins: 1 a "Cathode", 2 f "Cathode", 3 A "Common Anode", 4 NC "No Connect", 5 NC "No Connect", 6 LH DP "Left Hand DP Cathode", 7 e "Cathode", 8 d "Cathode", 9 RH DP "Right Hand DP Cathode", 10 c "Cathode", 11 g "Cathode", 12 NC "No Connect", 13 b "Cathode", 14 A "Common Anode"

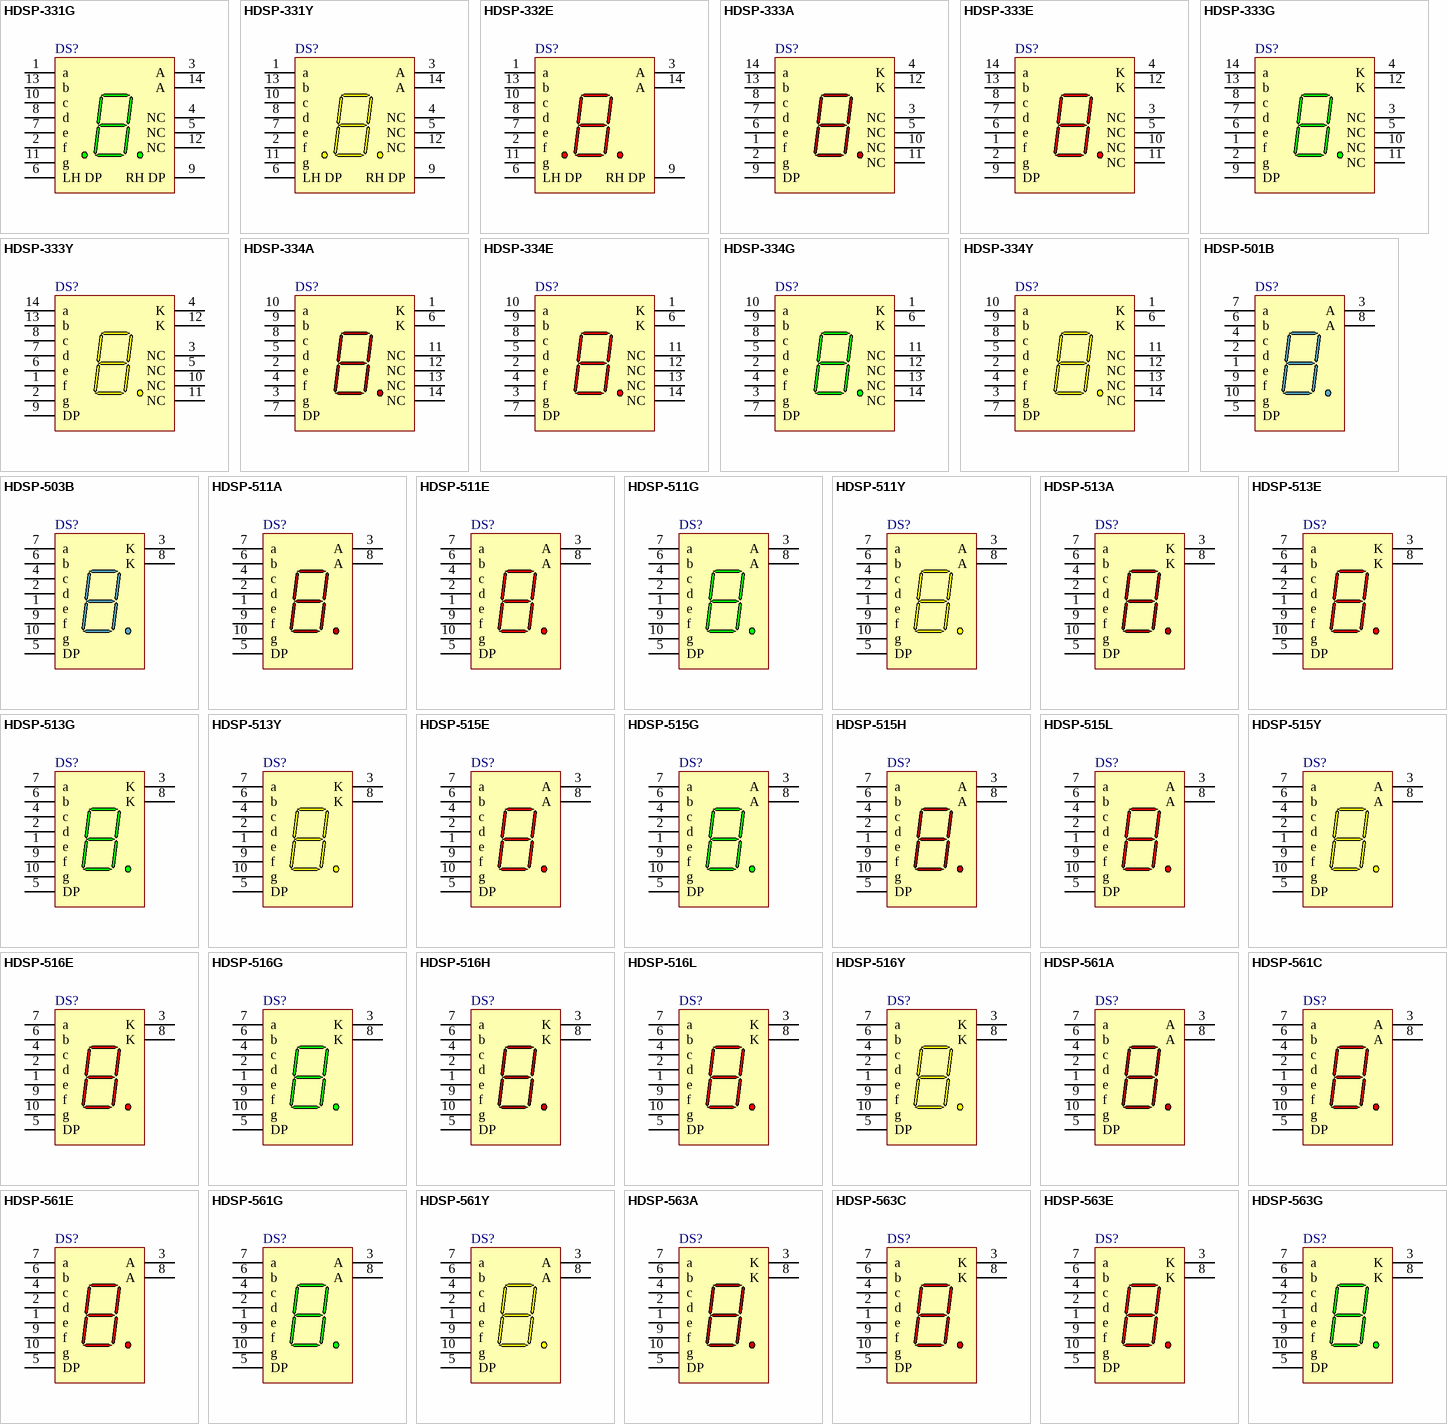
[diagram p1: symbols HDSP-331G to HDSP-563G]

## HDSP-331G
designator DS?
7.62 mm General Purpose Green 7-Segment Display: CA, RH and LH DP; Published: 26-May-2004; LatestRevisionDate: 11-Oct-2004; LatestRevisionNote: Display outline superimposed on PCB Footprint.; DatasheetVersion: 22-Apr-2003; PackageVersion: 22-Apr-2003; PackageReference: A-14; Publisher: Altium Limited; PackageDescription: LED, 7-Segment Display, 7.62 mm, LHD; 14 Leads; Row Space 7.62 mm; Pitch 2.54 mm; ComponentLink1Description: Manufacturer Link; ComponentLink1URL: http://www.avagotech.com/; ComponentLink2Description: Datasheet; ComponentLink2URL: http://cp.literature.agilent.com/litweb/pdf/5988-9421EN.pdf
footprint A-14 (LED, 7-Segment Display, 7.62 mm, LHD; 14 Leads; Row Space 7.62 mm; Pitch 2.54 mm)
simulation model HDSP_331G (SUBCKT)
pins: 1 a "Cathode", 2 f "Cathode", 3 A "Common Anode", 4 NC "No Connect", 5 NC "No Connect", 6 LH DP "Left Hand DP Cathode", 7 e "Cathode", 8 d "Cathode", 9 RH DP "Right Hand DP Cathode", 10 c "Cathode", 11 g "Cathode", 12 NC "No Connect", 13 b "Cathode", 14 A "Common Anode"

## HDSP-331Y
designator DS?
7.62 mm General Purpose Yellow 7-Segment Display: CA, RH and LH DP; Published: 26-May-2004; LatestRevisionDate: 11-Oct-2004; LatestRevisionNote: Display outline superimposed on PCB Footprint.; DatasheetVersion: 22-Apr-2003; PackageVersion: 22-Apr-2003; PackageReference: A-14; Publisher: Altium Limited; PackageDescription: LED, 7-Segment Display, 7.62 mm, LHD; 14 Leads; Row Space 7.62 mm; Pitch 2.54 mm; ComponentLink1Description: Manufacturer Link; ComponentLink1URL: http://www.avagotech.com/; ComponentLink2Description: Datasheet; ComponentLink2URL: http://cp.literature.agilent.com/litweb/pdf/5988-9421EN.pdf
footprint A-14 (LED, 7-Segment Display, 7.62 mm, LHD; 14 Leads; Row Space 7.62 mm; Pitch 2.54 mm)
simulation model HDSP_331Y (SUBCKT)
pins: 1 a "Cathode", 2 f "Cathode", 3 A "Common Anode", 4 NC "No Connect", 5 NC "No Connect", 6 LH DP "Left Hand DP Cathode", 7 e "Cathode", 8 d "Cathode", 9 RH DP "Right Hand DP Cathode", 10 c "Cathode", 11 g "Cathode", 12 NC "No Connect", 13 b "Cathode", 14 A "Common Anode"

## HDSP-332E
designator DS?
7.62 mm General Purpose HER 7-Segment Display: CA, RH and LH DP without Pins 4, 5 and 12; Note: No pins are present in positions 4, 5 and 12.; Published: 26-May-2004; LatestRevisionDate: 11-Oct-2004; LatestRevisionNote: Display outline superimposed on PCB Footprint.; DatasheetVersion: 22-Apr-2003; PackageVersion: 22-Apr-2003; PackageReference: A-11(14); Publisher: Altium Limited; PackageDescription: LED, 7-Segment Display, 7.62 mm, LHD; 14 Leads; Row Space 7.62 mm; Pitch 2.54 mm; ComponentLink1Description: Manufacturer Link; ComponentLink1URL: http://www.avagotech.com/; ComponentLink2Description: Datasheet; ComponentLink2URL: http://cp.literature.agilent.com/litweb/pdf/5988-9421EN.pdf
footprint A-11(14) (LED, 7-Segment Display, 7.62 mm, LHD; 14 Leads; Row Space 7.62 mm; Pitch 2.54 mm)
simulation model HDSP_331E (SUBCKT)
pins: 1 a "Cathode", 2 f "Cathode", 3 A "Common Anode", 6 LH DP "Left Hand DP Cathode", 7 e "Cathode", 8 d "Cathode", 9 RH DP "Right Hand DP Cathode", 10 c "Cathode", 11 g "Cathode", 13 b "Cathode", 14 A "Common Anode"

## HDSP-333A
designator DS?
7.62 mm General Purpose AlGaAs Red 7-Segment Display: CC, RH DP; Published: 26-May-2004; LatestRevisionDate: 11-Oct-2004; LatestRevisionNote: Display outline superimposed on PCB Footprint.; DatasheetVersion: 22-Apr-2003; PackageVersion: 22-Apr-2003; PackageReference: A-14(R); Publisher: Altium Limited; PackageDescription: LED, 7-Segment Display, 7.62 mm, RHD; 14 Leads; Row Space 7.62 mm; Pitch 2.54 mm; ComponentLink1Description: Manufacturer Link; ComponentLink1URL: http://www.avagotech.com/; ComponentLink2Description: Datasheet; ComponentLink2URL: http://cp.literature.agilent.com/litweb/pdf/5988-9421EN.pdf
footprint A-14(R) (LED, 7-Segment Display, 7.62 mm, RHD; 14 Leads; Row Space 7.62 mm; Pitch 2.54 mm)
simulation model HDSP_333A (SUBCKT)
pins: 1 f "Anode", 2 g "Anode", 3 NC "No Connect", 4 K "Common Cathode", 5 NC "No Connect", 6 e "Anode", 7 d "Anode", 8 c "Anode", 9 DP "Anode", 10 NC "No Connect", 11 NC "No Connect", 12 K "Common Cathode", 13 b "Anode", 14 a "Anode"

## HDSP-333E
designator DS?
7.62 mm General Purpose HER 7-Segment Display: CC, RH DP; Published: 26-May-2004; LatestRevisionDate: 11-Oct-2004; LatestRevisionNote: Display outline superimposed on PCB Footprint.; DatasheetVersion: 22-Apr-2003; PackageVersion: 22-Apr-2003; PackageReference: A-14(R); Publisher: Altium Limited; PackageDescription: LED, 7-Segment Display, 7.62 mm, RHD; 14 Leads; Row Space 7.62 mm; Pitch 2.54 mm; ComponentLink1Description: Manufacturer Link; ComponentLink1URL: http://www.avagotech.com/; ComponentLink2Description: Datasheet; ComponentLink2URL: http://cp.literature.agilent.com/litweb/pdf/5988-9421EN.pdf
footprint A-14(R) (LED, 7-Segment Display, 7.62 mm, RHD; 14 Leads; Row Space 7.62 mm; Pitch 2.54 mm)
simulation model HDSP_333E (SUBCKT)
pins: 1 f "Anode", 2 g "Anode", 3 NC "No Connect", 4 K "Common Cathode", 5 NC "No Connect", 6 e "Anode", 7 d "Anode", 8 c "Anode", 9 DP "Anode", 10 NC "No Connect", 11 NC "No Connect", 12 K "Common Cathode", 13 b "Anode", 14 a "Anode"

## HDSP-333G
designator DS?
7.62 mm General Purpose Green 7-Segment Display: CC, RH DP; Published: 26-May-2004; LatestRevisionDate: 11-Oct-2004; LatestRevisionNote: Display outline superimposed on PCB Footprint.; DatasheetVersion: 22-Apr-2003; PackageVersion: 22-Apr-2003; PackageReference: A-14(R); Publisher: Altium Limited; PackageDescription: LED, 7-Segment Display, 7.62 mm, RHD; 14 Leads; Row Space 7.62 mm; Pitch 2.54 mm; ComponentLink1Description: Manufacturer Link; ComponentLink1URL: http://www.avagotech.com/; ComponentLink2Description: Datasheet; ComponentLink2URL: http://cp.literature.agilent.com/litweb/pdf/5988-9421EN.pdf
footprint A-14(R) (LED, 7-Segment Display, 7.62 mm, RHD; 14 Leads; Row Space 7.62 mm; Pitch 2.54 mm)
simulation model HDSP_333G (SUBCKT)
pins: 1 f "Anode", 2 g "Anode", 3 NC "No Connect", 4 K "Common Cathode", 5 NC "No Connect", 6 e "Anode", 7 d "Anode", 8 c "Anode", 9 DP "Anode", 10 NC "No Connect", 11 NC "No Connect", 12 K "Common Cathode", 13 b "Anode", 14 a "Anode"

## HDSP-333Y
designator DS?
7.62 mm General Purpose Yellow 7-Segment Display: CC, RH DP; Published: 26-May-2004; LatestRevisionDate: 11-Oct-2004; LatestRevisionNote: Display outline superimposed on PCB Footprint.; DatasheetVersion: 22-Apr-2003; PackageVersion: 22-Apr-2003; PackageReference: A-14(R); Publisher: Altium Limited; PackageDescription: LED, 7-Segment Display, 7.62 mm, RHD; 14 Leads; Row Space 7.62 mm; Pitch 2.54 mm; ComponentLink1Description: Manufacturer Link; ComponentLink1URL: http://www.avagotech.com/; ComponentLink2Description: Datasheet; ComponentLink2URL: http://cp.literature.agilent.com/litweb/pdf/5988-9421EN.pdf
footprint A-14(R) (LED, 7-Segment Display, 7.62 mm, RHD; 14 Leads; Row Space 7.62 mm; Pitch 2.54 mm)
simulation model HDSP_333Y (SUBCKT)
pins: 1 f "Anode", 2 g "Anode", 3 NC "No Connect", 4 K "Common Cathode", 5 NC "No Connect", 6 e "Anode", 7 d "Anode", 8 c "Anode", 9 DP "Anode", 10 NC "No Connect", 11 NC "No Connect", 12 K "Common Cathode", 13 b "Anode", 14 a "Anode"

## HDSP-334A
designator DS?
7.62 mm General Purpose AlGaAs Red 7-Segment Display: CC, RH DP; Published: 26-May-2004; LatestRevisionDate: 11-Oct-2004; LatestRevisionNote: Display outline superimposed on PCB Footprint.; DatasheetVersion: 22-Apr-2003; PackageVersion: 22-Apr-2003; PackageReference: A-14(R); Publisher: Altium Limited; PackageDescription: LED, 7-Segment Display, 7.62 mm, RHD; 14 Leads; Row Space 7.62 mm; Pitch 2.54 mm; ComponentLink1Description: Manufacturer Link; ComponentLink1URL: http://www.avagotech.com/; ComponentLink2Description: Datasheet; ComponentLink2URL: http://cp.literature.agilent.com/litweb/pdf/5988-9421EN.pdf
footprint A-14(R) (LED, 7-Segment Display, 7.62 mm, RHD; 14 Leads; Row Space 7.62 mm; Pitch 2.54 mm)
simulation model HDSP_334A (SUBCKT)
pins: 1 K "Common Cathode", 2 e "Anode", 3 g "Anode", 4 f "Anode", 5 d "Anode", 6 K "Common Cathode", 7 DP "Anode", 8 c "Anode", 9 b "Anode", 10 a "Anode", 11 NC "No Connect", 12 NC "No Connect", 13 NC "No Connect", 14 NC "No Connect"

## HDSP-334E
designator DS?
7.62 mm General Purpose HER 7-Segment Display: CC, RH DP; Published: 26-May-2004; LatestRevisionDate: 11-Oct-2004; LatestRevisionNote: Display outline superimposed on PCB Footprint.; DatasheetVersion: 22-Apr-2003; PackageVersion: 22-Apr-2003; PackageReference: A-14(R); Publisher: Altium Limited; PackageDescription: LED, 7-Segment Display, 7.62 mm, RHD; 14 Leads; Row Space 7.62 mm; Pitch 2.54 mm; ComponentLink1Description: Manufacturer Link; ComponentLink1URL: http://www.avagotech.com/; ComponentLink2Description: Datasheet; ComponentLink2URL: http://cp.literature.agilent.com/litweb/pdf/5988-9421EN.pdf
footprint A-14(R) (LED, 7-Segment Display, 7.62 mm, RHD; 14 Leads; Row Space 7.62 mm; Pitch 2.54 mm)
simulation model HDSP_334E (SUBCKT)
pins: 1 K "Common Cathode", 2 e "Anode", 3 g "Anode", 4 f "Anode", 5 d "Anode", 6 K "Common Cathode", 7 DP "Anode", 8 c "Anode", 9 b "Anode", 10 a "Anode", 11 NC "No Connect", 12 NC "No Connect", 13 NC "No Connect", 14 NC "No Connect"

## HDSP-334G
designator DS?
7.62 mm General Purpose Green 7-Segment Display: CC, RH DP; Published: 26-May-2004; LatestRevisionDate: 11-Oct-2004; LatestRevisionNote: Display outline superimposed on PCB Footprint.; DatasheetVersion: 22-Apr-2003; PackageVersion: 22-Apr-2003; PackageReference: A-14(R); Publisher: Altium Limited; PackageDescription: LED, 7-Segment Display, 7.62 mm, RHD; 14 Leads; Row Space 7.62 mm; Pitch 2.54 mm; ComponentLink1Description: Manufacturer Link; ComponentLink1URL: http://www.avagotech.com/; ComponentLink2Description: Datasheet; ComponentLink2URL: http://cp.literature.agilent.com/litweb/pdf/5988-9421EN.pdf
footprint A-14(R) (LED, 7-Segment Display, 7.62 mm, RHD; 14 Leads; Row Space 7.62 mm; Pitch 2.54 mm)
simulation model HDSP_334G (SUBCKT)
pins: 1 K "Common Cathode", 2 e "Anode", 3 g "Anode", 4 f "Anode", 5 d "Anode", 6 K "Common Cathode", 7 DP "Anode", 8 c "Anode", 9 b "Anode", 10 a "Anode", 11 NC "No Connect", 12 NC "No Connect", 13 NC "No Connect", 14 NC "No Connect"